# Altium schematic symbol library SCH - MCU - STM32 - ST MICROELECTRONICS STM32F103Z(C-D-E)HX LFBGA144.SchLib: 1 symbol
Pins are listed as number, name and electrical type; pins without a type are passive.

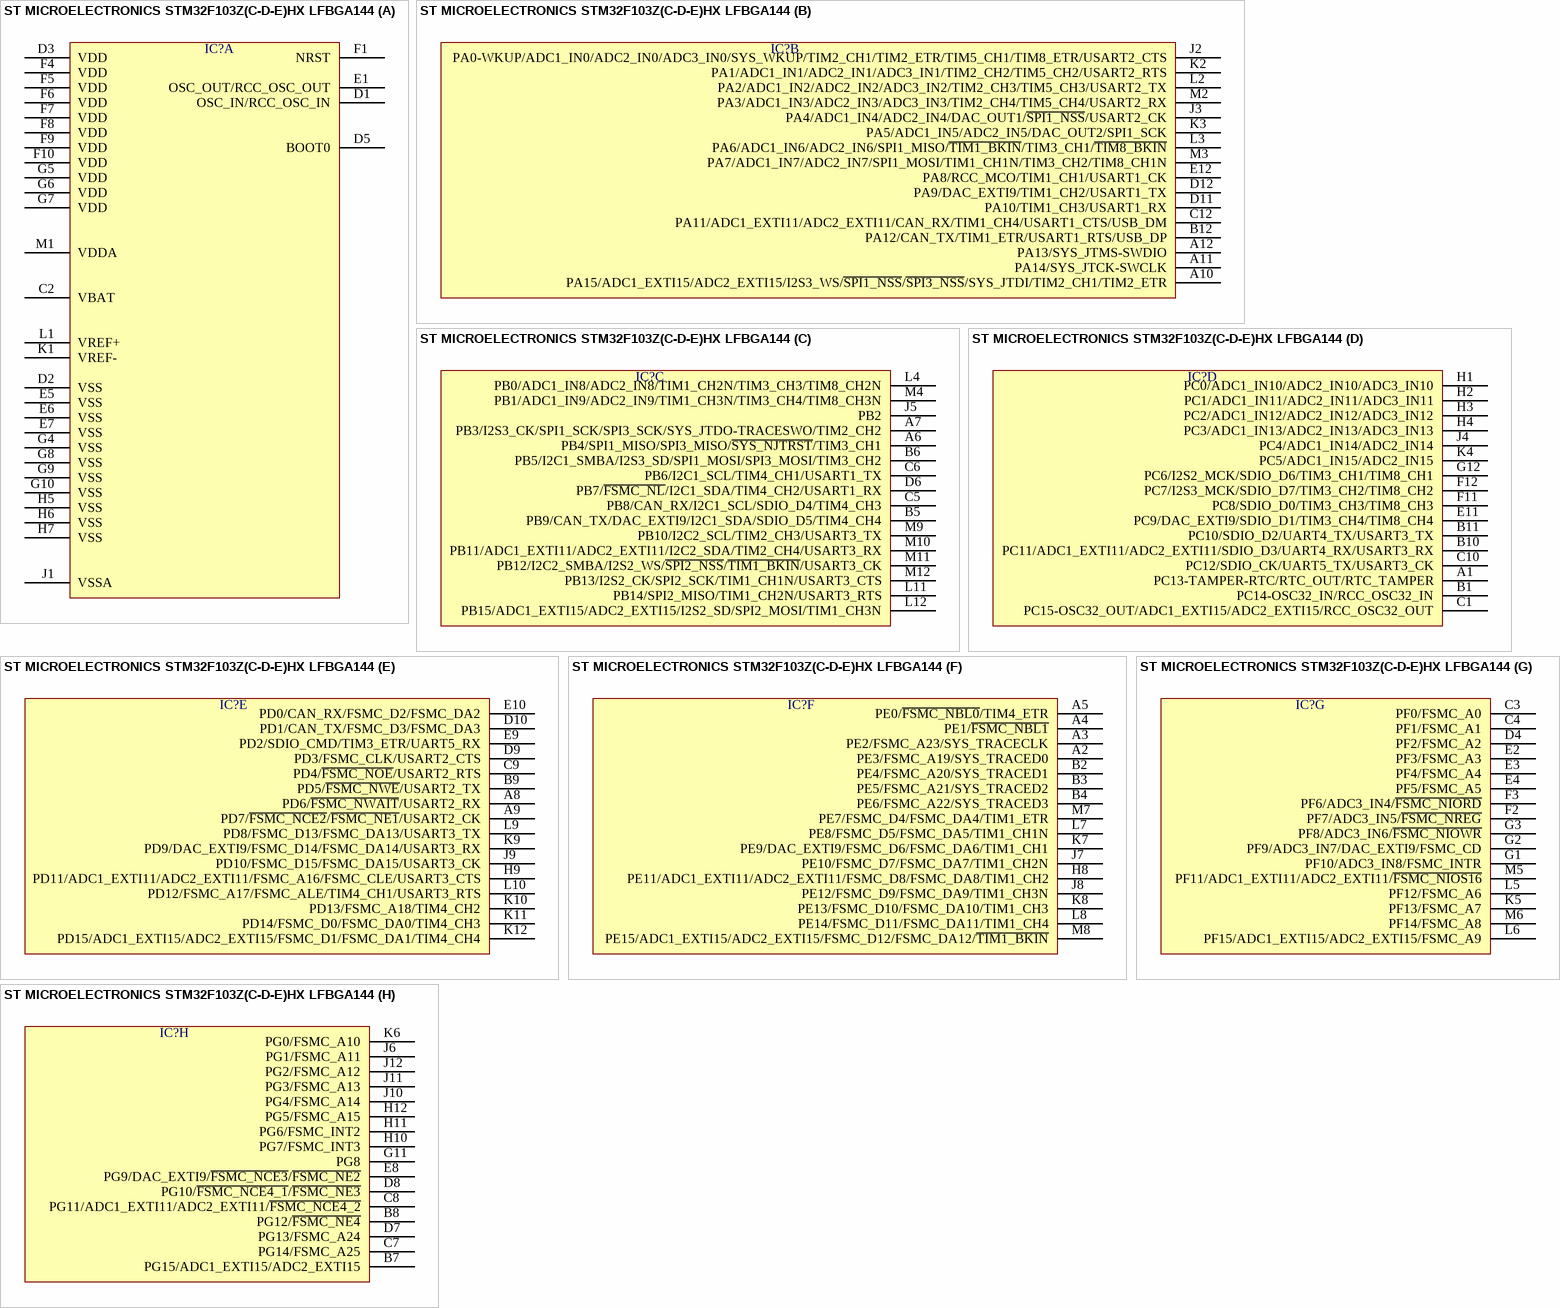
[diagram p0: symbol ST MICROELECTRONICS STM32F103Z(C-D-E)HX LFBGA144]

## ST MICROELECTRONICS STM32F103Z(C-D-E)HX LFBGA144
designator IC?  (value not drawn)
part A pins: C2 VBAT, D1 OSC_IN/RCC_OSC_IN, D2 VSS, D3 VDD, D5 BOOT0, E1 OSC_OUT/RCC_OSC_OUT, E5 VSS, E6 VSS, E7 VSS, F1 NRST, F4 VDD, F5 VDD, F6 VDD, F7 VDD, F8 VDD, F9 VDD, F10 VDD, G4 VSS, G5 VDD, G6 VDD, G7 VDD, G8 VSS, G9 VSS, G10 VSS, H5 VSS, H6 VSS, H7 VSS, J1 VSSA, K1 VREF-, L1 VREF+, M1 VDDA
part B pins: A10 PA15/ADC1_EXTI15/ADC2_EXTI15/I2S3_WS/~{SPI1_NSS}/~{SPI3_NSS}/SYS_JTDI/TIM2_CH1/TIM2_ETR, A11 PA14/SYS_JTCK-SWCLK, A12 PA13/SYS_JTMS-SWDIO, B12 PA12/CAN_TX/TIM1_ETR/USART1_RTS/USB_DP, C12 PA11/ADC1_EXTI11/ADC2_EXTI11/CAN_RX/TIM1_CH4/USART1_CTS/USB_DM, D11 PA10/TIM1_CH3/USART1_RX, D12 PA9/DAC_EXTI9/TIM1_CH2/USART1_TX, E12 PA8/RCC_MCO/TIM1_CH1/USART1_CK, J2 PA0-WKUP/ADC1_IN0/ADC2_IN0/ADC3_IN0/SYS_WKUP/TIM2_CH1/TIM2_ETR/TIM5_CH1/TIM8_ETR/USART2_CTS, J3 PA4/ADC1_IN4/ADC2_IN4/DAC_OUT1/~{SPI1_NSS}/USART2_CK, K2 PA1/ADC1_IN1/ADC2_IN1/ADC3_IN1/TIM2_CH2/TIM5_CH2/USART2_RTS, K3 PA5/ADC1_IN5/ADC2_IN5/DAC_OUT2/SPI1_SCK, L2 PA2/ADC1_IN2/ADC2_IN2/ADC3_IN2/TIM2_CH3/TIM5_CH3/USART2_TX, L3 PA6/ADC1_IN6/ADC2_IN6/SPI1_MISO/~{TIM1_BKIN}/TIM3_CH1/~{TIM8_BKIN}, M2 PA3/ADC1_IN3/ADC2_IN3/ADC3_IN3/TIM2_CH4/TIM5_CH4/USART2_RX, M3 PA7/ADC1_IN7/ADC2_IN7/SPI1_MOSI/TIM1_CH1N/TIM3_CH2/TIM8_CH1N
part C pins: A6 PB4/SPI1_MISO/SPI3_MISO/~{SYS_NJTRST}/TIM3_CH1, A7 PB3/I2S3_CK/SPI1_SCK/SPI3_SCK/SYS_JTDO-TRACESWO/TIM2_CH2, B5 PB9/CAN_TX/DAC_EXTI9/I2C1_SDA/SDIO_D5/TIM4_CH4, B6 PB5/I2C1_SMBA/I2S3_SD/SPI1_MOSI/SPI3_MOSI/TIM3_CH2, C5 PB8/CAN_RX/I2C1_SCL/SDIO_D4/TIM4_CH3, C6 PB6/I2C1_SCL/TIM4_CH1/USART1_TX, D6 PB7/~{FSMC_NL}/I2C1_SDA/TIM4_CH2/USART1_RX, J5 PB2, L4 PB0/ADC1_IN8/ADC2_IN8/TIM1_CH2N/TIM3_CH3/TIM8_CH2N, L11 PB14/SPI2_MISO/TIM1_CH2N/USART3_RTS, L12 PB15/ADC1_EXTI15/ADC2_EXTI15/I2S2_SD/SPI2_MOSI/TIM1_CH3N, M4 PB1/ADC1_IN9/ADC2_IN9/TIM1_CH3N/TIM3_CH4/TIM8_CH3N, M9 PB10/I2C2_SCL/TIM2_CH3/USART3_TX, M10 PB11/ADC1_EXTI11/ADC2_EXTI11/I2C2_SDA/TIM2_CH4/USART3_RX, M11 PB12/I2C2_SMBA/I2S2_WS/~{SPI2_NSS}/~{TIM1_BKIN}/USART3_CK, M12 PB13/I2S2_CK/SPI2_SCK/TIM1_CH1N/USART3_CTS
part D pins: A1 PC13-TAMPER-RTC/RTC_OUT/RTC_TAMPER, B1 PC14-OSC32_IN/RCC_OSC32_IN, B10 PC11/ADC1_EXTI11/ADC2_EXTI11/SDIO_D3/UART4_RX/USART3_RX, B11 PC10/SDIO_D2/UART4_TX/USART3_TX, C1 PC15-OSC32_OUT/ADC1_EXTI15/ADC2_EXTI15/RCC_OSC32_OUT, C10 PC12/SDIO_CK/UART5_TX/USART3_CK, E11 PC9/DAC_EXTI9/SDIO_D1/TIM3_CH4/TIM8_CH4, F11 PC8/SDIO_D0/TIM3_CH3/TIM8_CH3, F12 PC7/I2S3_MCK/SDIO_D7/TIM3_CH2/TIM8_CH2, G12 PC6/I2S2_MCK/SDIO_D6/TIM3_CH1/TIM8_CH1, H1 PC0/ADC1_IN10/ADC2_IN10/ADC3_IN10, H2 PC1/ADC1_IN11/ADC2_IN11/ADC3_IN11, H3 PC2/ADC1_IN12/ADC2_IN12/ADC3_IN12, H4 PC3/ADC1_IN13/ADC2_IN13/ADC3_IN13, J4 PC4/ADC1_IN14/ADC2_IN14, K4 PC5/ADC1_IN15/ADC2_IN15
part E pins: A8 PD6/~{FSMC_NWAIT}/USART2_RX, A9 PD7/~{FSMC_NCE2}/~{FSMC_NE1}/USART2_CK, B9 PD5/~{FSMC_NWE}/USART2_TX, C9 PD4/~{FSMC_NOE}/USART2_RTS, D9 PD3/FSMC_CLK/USART2_CTS, D10 PD1/CAN_TX/FSMC_D3/FSMC_DA3, E9 PD2/SDIO_CMD/TIM3_ETR/UART5_RX, E10 PD0/CAN_RX/FSMC_D2/FSMC_DA2, H9 PD11/ADC1_EXTI11/ADC2_EXTI11/FSMC_A16/FSMC_CLE/USART3_CTS, J9 PD10/FSMC_D15/FSMC_DA15/USART3_CK, K9 PD9/DAC_EXTI9/FSMC_D14/FSMC_DA14/USART3_RX, K10 PD13/FSMC_A18/TIM4_CH2, K11 PD14/FSMC_D0/FSMC_DA0/TIM4_CH3, K12 PD15/ADC1_EXTI15/ADC2_EXTI15/FSMC_D1/FSMC_DA1/TIM4_CH4, L9 PD8/FSMC_D13/FSMC_DA13/USART3_TX, L10 PD12/FSMC_A17/FSMC_ALE/TIM4_CH1/USART3_RTS
part F pins: A2 PE3/FSMC_A19/SYS_TRACED0, A3 PE2/FSMC_A23/SYS_TRACECLK, A4 PE1/~{FSMC_NBL1}, A5 PE0/~{FSMC_NBL0}/TIM4_ETR, B2 PE4/FSMC_A20/SYS_TRACED1, B3 PE5/FSMC_A21/SYS_TRACED2, B4 PE6/FSMC_A22/SYS_TRACED3, H8 PE11/ADC1_EXTI11/ADC2_EXTI11/FSMC_D8/FSMC_DA8/TIM1_CH2, J7 PE10/FSMC_D7/FSMC_DA7/TIM1_CH2N, J8 PE12/FSMC_D9/FSMC_DA9/TIM1_CH3N, K7 PE9/DAC_EXTI9/FSMC_D6/FSMC_DA6/TIM1_CH1, K8 PE13/FSMC_D10/FSMC_DA10/TIM1_CH3, L7 PE8/FSMC_D5/FSMC_DA5/TIM1_CH1N, L8 PE14/FSMC_D11/FSMC_DA11/TIM1_CH4, M7 PE7/FSMC_D4/FSMC_DA4/TIM1_ETR, M8 PE15/ADC1_EXTI15/ADC2_EXTI15/FSMC_D12/FSMC_DA12/~{TIM1_BKIN}
part G pins: C3 PF0/FSMC_A0, C4 PF1/FSMC_A1, D4 PF2/FSMC_A2, E2 PF3/FSMC_A3, E3 PF4/FSMC_A4, E4 PF5/FSMC_A5, F2 PF7/ADC3_IN5/~{FSMC_NREG}, F3 PF6/ADC3_IN4/~{FSMC_NIORD}, G1 PF10/ADC3_IN8/FSMC_INTR, G2 PF9/ADC3_IN7/DAC_EXTI9/FSMC_CD, G3 PF8/ADC3_IN6/~{FSMC_NIOWR}, K5 PF13/FSMC_A7, L5 PF12/FSMC_A6, L6 PF15/ADC1_EXTI15/ADC2_EXTI15/FSMC_A9, M5 PF11/ADC1_EXTI11/ADC2_EXTI11/~{FSMC_NIOS16}, M6 PF14/FSMC_A8
part H pins: B7 PG15/ADC1_EXTI15/ADC2_EXTI15, B8 PG12/~{FSMC_NE4}, C7 PG14/FSMC_A25, C8 PG11/ADC1_EXTI11/ADC2_EXTI11/~{FSMC_NCE4_2}, D7 PG13/FSMC_A24, D8 PG10/~{FSMC_NCE4_1}/~{FSMC_NE3}, E8 PG9/DAC_EXTI9/~{FSMC_NCE3}/~{FSMC_NE2}, G11 PG8, H10 PG7/FSMC_INT3, H11 PG6/FSMC_INT2, H12 PG5/FSMC_A15, J6 PG1/FSMC_A11, J10 PG4/FSMC_A14, J11 PG3/FSMC_A13, J12 PG2/FSMC_A12, K6 PG0/FSMC_A10